# EAGLE library part BAT_CHARGER (library BatManager_BQ24232)
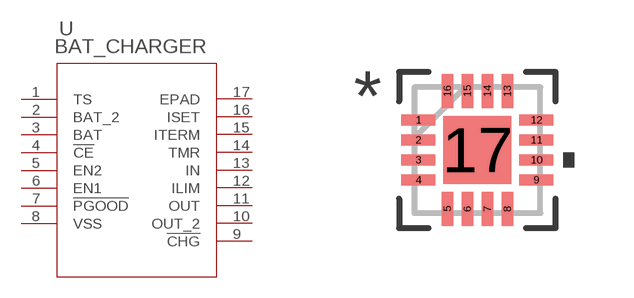
[diagram p0: symbol with the pads of RGT16_1P7X1P7; footprint RGT16_1P7X1P7]

Designator prefix U

## BAT_CHARGER (DESCRIPTION: IC LI+ CHARGER PWR MGMT 16QFN; LINK: https://www.digikey.com/product-detail/en/texas-instruments/BQ24232RGTT/296-24668-1-ND/2092634; MANUFACTURER: Texas Instruments; MANUFACTURER_PART_NUM: BQ24232RGTT)  [RGT16_1P7X1P7]
1  TS  in
2  BAT_2  pas
3  BAT  pas
4  !CE  in
5  EN2  in
6  EN1  in
7  !PGOOD  out
8  VSS  pwr
9  !CHG  out
10  OUT_2  hiz
11  OUT  out
12  ILIM  in
13  IN  in
14  TMR  in
15  ITERM  in
16  ISET  pas
17  EPAD  pwr

## Footprint RGT16_1P7X1P7 (pad centres in mm)
smd 0.85 x 0.28: 1 -1.475,0.75; 2 -1.475,0.25; 3 -1.475,-0.25; 4 -1.475,-0.75; 9 1.475,-0.75; 10 1.475,-0.25; 11 1.475,0.25; 12 1.475,0.75
smd 0.28 x 0.85: 5 -0.75,-1.475; 6 -0.25,-1.475; 7 0.25,-1.475; 8 0.75,-1.475; 13 0.75,1.475; 14 0.25,1.475; 15 -0.25,1.475; 16 -0.75,1.475
smd 1.7 x 1.7: 17 0,0